# Altium footprint library pre_MICROCIRCUITRY.PcbLib: 35 footprints (part 1 of 3)
Each footprint in its own frame and in the unit in brackets; x right, y up, seen from the top. Pads: shape width x height; smd on the part's side, far side on the other; paste and mask are expansions set on the pad; w line width, h text height; cw(c..) or ccw(c..) is an arc to the next point about the centre after c.
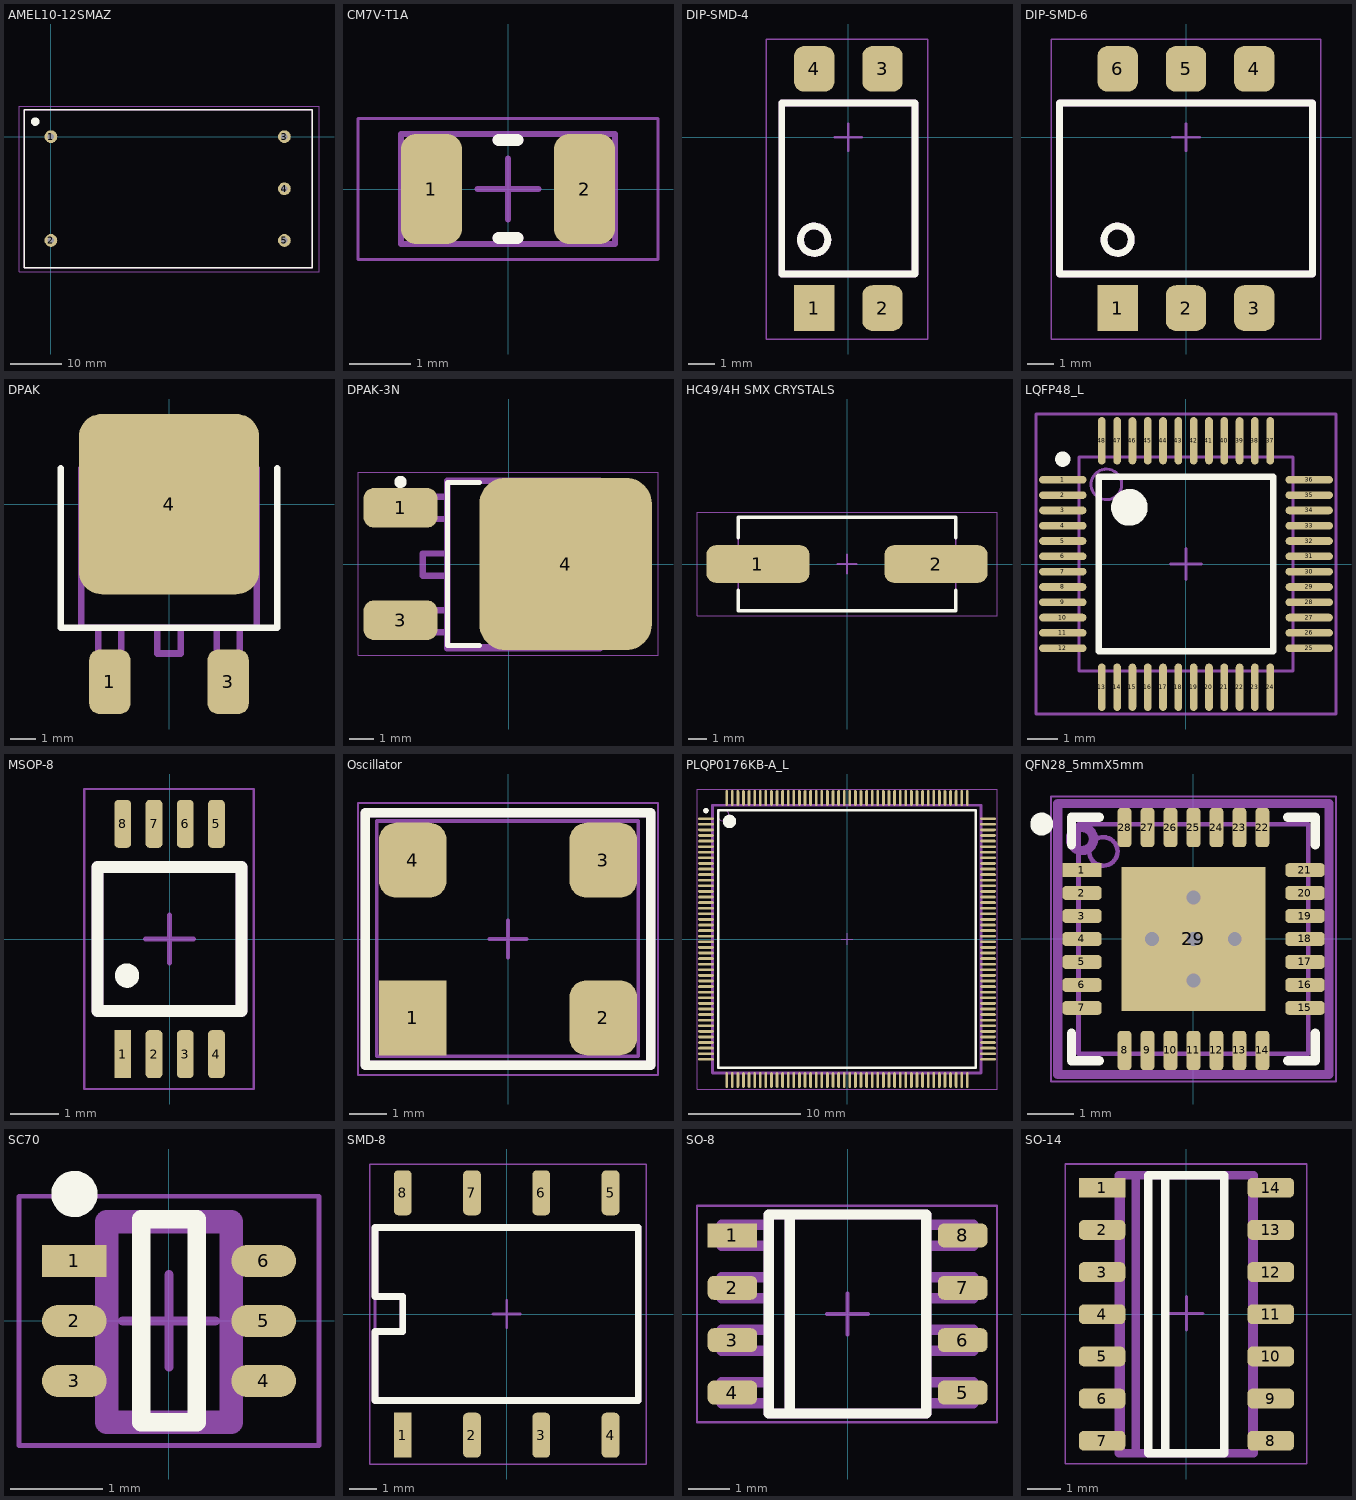
[diagram p0: the footprints below, top view; thin cyan lines are the x and y axes]

## AMEL10-12SMAZ [mm]
pads (5):
  round 2.5 hole 1.25: 1(0,0) 2(0,-20.32) 3(45.72,0) 4(45.72,-10.2) 5(45.72,-20.32)
Top Overlay:
  circle w1.254: c-3.075,2.95 r0.2
  lines w0.254: -5.25,-25.625 -5.25,5.225 51.2,5.225 51.2,-25.625 -5.25,-25.625
Top Assy:
  lines w0.254: -5.25,5.225 51.2,5.225 51.2,-25.625 ; -5.25,5.25 -5.25,-25.625 51.25,-25.625
Mechanical 13:
  lines w0.1: -5.25,5.225 51.2,5.225 51.2,-25.625 ; -5.25,5.25 -5.25,-25.625 51.25,-25.625
Mechanical 15:
  lines w0.05: -6.25,-26.5 -6.25,6 52.5,6 52.5,-26.5 -6.25,-26.5
3D body: height 25.1, standoff 0, extent -5.125,-25.5 51.075,5.1

## CM7V-T1A [mm] "Watch Crystal"
height 0.65
pads (2):
  rrect50% 1x1.8 smd: 1(-1.25,0) 2(1.25,0)
Top Overlay:
  lines w0.2: -0.15,-0.8 0.15,-0.8 ; -0.15,0.8 0.15,0.8
Top Assy:
  lines w0.2: -0.15,-0.8 0.15,-0.8 ; -0.15,0.8 0.15,0.8
Mechanical 13:
  lines w0.1: -1.75,-0.9 1.75,-0.9 1.75,0.9 -1.75,0.9 -1.75,-0.9
Mechanical 15:
  lines w0.05: -2.45,-1.15 2.45,-1.15 2.45,1.15 -2.45,1.15 -2.45,-1.15
  lines w0.1: -0.5,0 0.5,0 ; 0,-0.5 0,0.5
3D body: height 0.65, standoff 0, extent 0.9,-0.9 1.75,0.9
3D body: height 0.65, standoff 0, extent -1.75,-0.9 -0.9,0.9
3D body: height 0.65, standoff 0, extent -0.9,-0.9 0.9,0.9

## DIP-SMD-4 [mm]
height 3.8
pads (4):
  rect 1.5x1.7 smd: 1(-1.27,-6.35)
  rrect50% 1.5x1.7 smd: 2(1.27,-6.35) 3(1.27,2.54) 4(-1.27,2.54)
Top Overlay:
  circle w0.254: c-1.27,-3.81 r0.508
  lines w0.254: -2.475,-5.08 2.475,-5.08 2.475,1.27 -2.475,1.27 -2.475,-5.08
Top Assy:
  circle w0.254: c-1.27,-3.81 r0.508
  lines w0.254: -2.475,0.508 -2.475,1.27 ; -2.475,1.27 -2.475,-5.08 2.475,-5.08 2.475,1.27 -2.475,1.27
Mechanical 13:
  lines w0.1: -2.475,-5.075 2.475,-5.075 2.475,1.275 -2.475,1.275 -2.475,-5.075
Mechanical 15:
  lines w0.05: -3.05,-7.5 2.95,-7.5 2.95,3.65 -3.05,3.65 -3.05,-7.5
  lines w0.1: -0.5,0 0.5,0 ; 0,-0.5 0,0.5
3D body: height 4.7, standoff 1.3, extent -2.475,-5.075 2.475,1.3

## DIP-SMD-6 [mm]
pads (6):
  rect 1.5x1.7 smd: 1(-2.54,-6.35)
  rrect50% 1.5x1.7 smd: 2(0,-6.35) 3(2.54,-6.35) 4(2.54,2.54) 5(0,2.54) 6(-2.54,2.54)
Top Overlay:
  circle w0.254: c-2.54,-3.81 r0.508
  lines w0.254: -4.699,-5.08 4.699,-5.08 4.699,1.27 -4.699,1.27 -4.699,-1.27 -4.699,-2.54 -4.699,-5.08
Top Assy:
  circle w0.254: c-2.54,-3.81 r0.508
  lines w0.254: -4.699,-5.08 4.699,-5.08 4.699,1.27 -4.699,1.27 -4.699,0.508 -4.699,-0.762 -4.699,-1.27 -4.699,-2.54 -4.699,-5.08
Mechanical 13:
  lines w0.1: -4.699,-5.075 4.675,-5.075 4.675,1.275 -4.699,1.275 -4.699,-5.075
Mechanical 15:
  lines w0.05: -5,-7.5 5,-7.5 5,3.65 -5,3.65 -5,-7.5
  lines w0.1: -0.5,0 0.5,0 ; 0,-0.5 0,0.5
3D body: height 4.7, standoff 1.3, extent -4.7,-5.075 4.7,1.3

## DPAK [mm]
height 2.4
pads (3):
  rrect50% 1.6x2.5 smd: 1(-2.3,-6.9) 3(2.3,-6.9)
  rrect25% 7x7 smd: 4(0,0)
Top Overlay:
  lines w0.254: -4.2,1.4 -4.2,-4.8 4.2,-4.8 4.2,1.4
Top Assy:
  lines w0.254: -2.75,-4.8 -2.75,-7.6 -1.85,-7.6 -1.85,-4.8 ; -2.75,1.4 -2.75,2.7 0,2.7 2.75,2.7 2.75,1.4 ; -0.45,-4.8 -0.45,-5.8 0.45,-5.8 0.45,-4.8 ; 1.85,-4.8 1.85,-7.6 2.75,-7.6 2.75,-4.8 ; -3.4,-4.8 0,-4.8 3.4,-4.8 3.4,1.4 -3.4,1.4 -3.4,-4.8

## DPAK-3N [mm] "D-PAK, 3-Pads, Body 6,20x6,66mm (max), IPC Medium Density"
height 2.4
pads (3):
  rrect50% 3x1.6 smd: 1(-4.4,2.28) 3(-4.4,-2.28)
  rrect30% 7x7 smd: 4(2.3,0)
Top Overlay:
  circle w0.25: c-4.4,3.33 r0.125
  lines w0.2: -1.2,-3.3 -2.5,-3.3 -2.5,3.3 -1.2,3.3
Top Assy:
  lines w0.254: -2.5,-2.775 -5.3,-2.775 -5.3,-1.875 -2.5,-1.875 ; -2.5,-0.475 -3.5,-0.475 -3.5,0.425 -2.5,0.425 ; -2.5,1.825 -5.3,1.825 -5.3,2.725 -2.5,2.725 ; 3.725,-2.75 5.025,-2.75 5.025,0 5.025,2.75 3.725,2.75 ; -2.5,-3.425 3.7,-3.425 3.7,3.375 -2.5,3.375 -2.5,-0.025 -2.5,-3.425
Mechanical 13:
  lines w0.1: -2.5,-3.3 -2.5,3.3 3.7,3.3 3.7,-3.3 -2.5,-3.3
Mechanical 15:
  lines w0.05: -6.125,-3.7 -6.125,3.725 6.05,3.725 6.05,-3.7 -6.125,-3.7
  lines w0.1: -0.5,0 0.5,0 ; 0,-0.5 0,0.5
3D body: height 2.4, standoff 0, extent -2.5,-3.3 3.7,3.3

## HC49/4H SMX CRYSTALS [mm] "SMX crystals"
height 4.3
pads (2):
  rrect50% 5.5x2 smd: 1(-4.75,0) 2(4.75,0)
Top Overlay:
  lines w0.2: -5.8,-1.4 -5.8,-2.5 5.8,-2.5 5.8,-1.4 ; -5.8,1.4 -5.8,2.5 5.8,2.5 5.8,1.4
Mechanical 13:
  lines w0.1: -5.8,-2.45 -5.8,2.45 5.8,2.45 5.8,-2.45 -5.8,-2.45
Mechanical 15:
  lines w0.05: -8,-2.75 -8,2.75 8,2.75 8,-2.75 -8,-2.75
  lines w0.1: -0.5,0 0.5,0 ; 0,-0.5 0,0.5
3D body: height 4.3, standoff 0, extent -5.8,-2.45 5.8,2.45

## LQFP48_L [mm] "Thin QFP, 48-Leads, Body 7x7mm, Pitch 0.5mm, IPC High Density"
height 1.6
pads (48):
  oval 1.55x0.25 smd: 1(-4.025,2.75) 2(-4.025,2.25) 3(-4.025,1.75) 4(-4.025,1.25) 5(-4.025,0.75) 6(-4.025,0.25) 7(-4.025,-0.25) 8(-4.025,-0.75) 9(-4.025,-1.25) 10(-4.025,-1.75) 11(-4.025,-2.25) 12(-4.025,-2.75) 25(4.025,-2.75) 26(4.025,-2.25) 27(4.025,-1.75) 28(4.025,-1.25) 29(4.025,-0.75) 30(4.025,-0.25) 31(4.025,0.25) 32(4.025,0.75) 33(4.025,1.25) 34(4.025,1.75) 35(4.025,2.25) 36(4.025,2.75)
  oval 0.25x1.55 smd: 13(-2.75,-4.025) 14(-2.25,-4.025) 15(-1.75,-4.025) 16(-1.25,-4.025) 17(-0.75,-4.025) 18(-0.25,-4.025) 19(0.25,-4.025) 20(0.75,-4.025) 21(1.25,-4.025) 22(1.75,-4.025) 23(2.25,-4.025) 24(2.75,-4.025) 37(2.75,4.025) 38(2.25,4.025) 39(1.75,4.025) 40(1.25,4.025) 41(0.75,4.025) 42(0.25,4.025) 43(-0.25,4.025) 44(-0.75,4.025) 45(-1.25,4.025) 46(-1.75,4.025) 47(-2.25,4.025) 48(-2.75,4.025)
Top Overlay:
  circle w0.6: c-1.85,1.85 r0.3
  circle w0.25: c-4.025,3.425 r0.125
  lines w0.2: -2.85,-2.85 2.85,-2.85 2.85,2.85 -2.85,2.85 -2.85,-2.85
Mechanical 13:
  circle w0.1: c-2.6,2.6 r0.5
  lines w0.1: -3.5,-3.5 3.5,-3.5 3.5,3.5 -3.5,3.5 -3.5,-3.5
Mechanical 15:
  lines w0.1: -0.5,0 0.5,0 ; 0,-0.5 0,0.5 ; -4.9,-4.9 4.9,-4.9 4.9,4.9 -4.9,4.9 -4.9,-4.9
3D body: height 1.6, standoff 0, extent -3.5,-3.5 3.5,3.5

## MSOP-8 [mm]
height 1
pads (8):
  rect 0.35x1 smd: 1(-0.975,-2.4)
  rrect50% 0.35x1 smd: 2(-0.325,-2.4) 3(0.325,-2.4) 4(0.975,-2.4) 5(0.975,2.4) 6(0.325,2.4) 7(-0.325,2.4) 8(-0.975,2.4)
Top Overlay:
  circle w0.254: c-0.889,-0.762 r0.127
  lines w0.254: -1.5,-1.5 -1.5,1.5 1.5,1.5 1.5,-1.5 -1.5,-1.5
Mechanical 13:
  lines w0.1: -1.5,-1.5 1.5,-1.5 1.5,1.5 -1.5,1.5 -1.5,-1.5
Mechanical 15:
  lines w0.05: -1.775,-3.125 1.75,-3.125 1.75,3.125 -1.775,3.125 -1.775,-3.125
  lines w0.1: -0.5,0 0.5,0 ; 0,-0.5 0,0.5
  lines w0.254: -1.5,-1.5 1.5,-1.5 1.5,1.5 -1.5,1.5 -1.5,-1.5
3D body: height 1, standoff 0, extent -1.5,-1.5 1.5,1.5

## Oscillator [mm]
height 1.5
pads (4):
  rect 1.8x2 smd: 1(-2.54,-2.1)
  rrect50% 1.8x2 smd: 2(2.54,-2.1) 3(2.54,2.1) 4(-2.54,2.1)
Top Overlay:
  lines w0.254: -3.81,-3.37 -3.81,3.37 3.81,3.37 3.81,-3.37 -3.81,-3.37
Top Assy:
  lines w0.254: -3.81,-3.37 3.81,-3.37 ; -3.81,-3.302 -3.81,3.302 ; -3.81,3.37 3.81,3.37 ; 3.81,-3.302 3.81,3.302
Mechanical 13:
  lines w0.1: -3.5,-3.125 3.475,-3.125 3.475,3.15 -3.5,3.15 -3.5,-3.125
Mechanical 15:
  lines w0.05: -4,-3.625 4,-3.625 4,3.625 -4,3.625 -4,-3.625
  lines w0.1: -0.5,0 0.5,0 ; 0,-0.5 0,0.5
3D body: height 1.5, standoff 0, extent -3.5,-3.125 3.475,3.15

## PLQP0176KB-A_L [mm] "Shrink QFP, 176-Leads, Body 24x24mm, Pitch 0.5mm, IPC High Density"
height 1.7
pads (176):
  oval 1.4x0.25 smd: 1(-12.6,10.75) 2(-12.6,10.25) 3(-12.6,9.75) 4(-12.6,9.25) 5(-12.6,8.75) 6(-12.6,8.25) 7(-12.6,7.75) 8(-12.6,7.25) 9(-12.6,6.75) 10(-12.6,6.25) 11(-12.6,5.75) 12(-12.6,5.25) 13(-12.6,4.75) 14(-12.6,4.25) 15(-12.6,3.75) 16(-12.6,3.25) 17(-12.6,2.75) 18(-12.6,2.25) 19(-12.6,1.75) 20(-12.6,1.25) 21(-12.6,0.75) 22(-12.6,0.25) 23(-12.6,-0.25) 24(-12.6,-0.75) 25(-12.6,-1.25) 26(-12.6,-1.75) 27(-12.6,-2.25) 28(-12.6,-2.75) 29(-12.6,-3.25) 30(-12.6,-3.75) 31(-12.6,-4.25) 32(-12.6,-4.75) 33(-12.6,-5.25) 34(-12.6,-5.75) 35(-12.6,-6.25) 36(-12.6,-6.75) 37(-12.6,-7.25) 38(-12.6,-7.75) 39(-12.6,-8.25) 40(-12.6,-8.75) 41(-12.6,-9.25) 42(-12.6,-9.75) 43(-12.6,-10.25) 44(-12.6,-10.75) 89(12.6,-10.75) 90(12.6,-10.25) 91(12.6,-9.75) 92(12.6,-9.25) 93(12.6,-8.75) 94(12.6,-8.25) 95(12.6,-7.75) 96(12.6,-7.25) 97(12.6,-6.75) 98(12.6,-6.25) 99(12.6,-5.75) 100(12.6,-5.25) 101(12.6,-4.75) 102(12.6,-4.25) 103(12.6,-3.75) 104(12.6,-3.25) 105(12.6,-2.75) 106(12.6,-2.25) 107(12.6,-1.75) 108(12.6,-1.25) 109(12.6,-0.75) 110(12.6,-0.25) 111(12.6,0.25) 112(12.6,0.75) 113(12.6,1.25) 114(12.6,1.75) 115(12.6,2.25) 116(12.6,2.75) 117(12.6,3.25) 118(12.6,3.75) 119(12.6,4.25) 120(12.6,4.75) 121(12.6,5.25) 122(12.6,5.75) 123(12.6,6.25) 124(12.6,6.75) 125(12.6,7.25) 126(12.6,7.75) 127(12.6,8.25) 128(12.6,8.75) 129(12.6,9.25) 130(12.6,9.75) 131(12.6,10.25) 132(12.6,10.75)
  oval 0.25x1.4 smd: 45(-10.75,-12.6) 46(-10.25,-12.6) 47(-9.75,-12.6) 48(-9.25,-12.6) 49(-8.75,-12.6) 50(-8.25,-12.6) 51(-7.75,-12.6) 52(-7.25,-12.6) 53(-6.75,-12.6) 54(-6.25,-12.6) 55(-5.75,-12.6) 56(-5.25,-12.6) 57(-4.75,-12.6) 58(-4.25,-12.6) 59(-3.75,-12.6) 60(-3.25,-12.6) 61(-2.75,-12.6) 62(-2.25,-12.6) 63(-1.75,-12.6) 64(-1.25,-12.6) 65(-0.75,-12.6) 66(-0.25,-12.6) 67(0.25,-12.6) 68(0.75,-12.6) 69(1.25,-12.6) 70(1.75,-12.6) 71(2.25,-12.6) 72(2.75,-12.6) 73(3.25,-12.6) 74(3.75,-12.6) 75(4.25,-12.6) 76(4.75,-12.6) 77(5.25,-12.6) 78(5.75,-12.6) 79(6.25,-12.6) 80(6.75,-12.6) 81(7.25,-12.6) 82(7.75,-12.6) 83(8.25,-12.6) 84(8.75,-12.6) 85(9.25,-12.6) 86(9.75,-12.6) 87(10.25,-12.6) 88(10.75,-12.6) 133(10.75,12.6) 134(10.25,12.6) 135(9.75,12.6) 136(9.25,12.6) 137(8.75,12.6) 138(8.25,12.6) 139(7.75,12.6) 140(7.25,12.6) 141(6.75,12.6) 142(6.25,12.6) 143(5.75,12.6) 144(5.25,12.6) 145(4.75,12.6) 146(4.25,12.6) 147(3.75,12.6) 148(3.25,12.6) 149(2.75,12.6) 150(2.25,12.6) 151(1.75,12.6) 152(1.25,12.6) 153(0.75,12.6) 154(0.25,12.6) 155(-0.25,12.6) 156(-0.75,12.6) 157(-1.25,12.6) 158(-1.75,12.6) 159(-2.25,12.6) 160(-2.75,12.6) 161(-3.25,12.6) 162(-3.75,12.6) 163(-4.25,12.6) 164(-4.75,12.6) 165(-5.25,12.6) 166(-5.75,12.6) 167(-6.25,12.6) 168(-6.75,12.6) 169(-7.25,12.6) 170(-7.75,12.6) 171(-8.25,12.6) 172(-8.75,12.6) 173(-9.25,12.6) 174(-9.75,12.6) 175(-10.25,12.6) 176(-10.75,12.6)
Top Overlay:
  circle w0.25: c-12.6,11.475 r0.125
  circle w0.6: c-10.5,10.5 r0.3
  lines w0.2: -11.5,-11.5 -11.5,11.5 11.5,11.5 11.5,-11.5 -11.5,-11.5
Mechanical 13:
  circle w0.1: c-11.05,11.05 r0.5
  lines w0.1: -12,-12 -12,12 12,12 12,-12 -12,-12
Mechanical 15:
  lines w0.1: -0.5,0 0.5,0 ; 0,-0.5 0,0.5 ; -13.4,-13.4 -13.4,13.4 13.4,13.4 13.4,-13.4 -13.4,-13.4
  lines w0.254: -12.025,-11.975 11.975,-11.975 11.975,11.95 -12.025,11.95 -12.025,-11.975
3D body: height 1.7, standoff 0.05, extent -12,-12 12,12

## QFN28_5mmX5mm [mm] "QFN, 28-Leads, Body 5,00x5,00mm, Pitch 0,50mm, Thermal Pad 3,13x3,13mm, IPC Medium Density"
height 1
pads (29):
  rect 0.85x0.3 smd: 1(-2.425,1.5)
  rrect50% 0.85x0.3 smd: 2(-2.425,1) 3(-2.425,0.5) 4(-2.425,0) 5(-2.425,-0.5) 6(-2.425,-1) 7(-2.425,-1.5) 15(2.425,-1.5) 16(2.425,-1) 17(2.425,-0.5) 18(2.425,0) 19(2.425,0.5) 20(2.425,1) 21(2.425,1.5)
  rrect50% 0.3x0.85 smd: 8(-1.5,-2.425) 9(-1,-2.425) 10(-0.5,-2.425) 11(0,-2.425) 12(0.5,-2.425) 13(1,-2.425) 14(1.5,-2.425) 22(1.5,2.425) 23(1,2.425) 24(0.5,2.425) 25(0,2.425) 26(-0.5,2.425) 27(-1,2.425) 28(-1.5,2.425)
  rect 3.13x3.13 smd: 29(0,0)
via 0,0 diameter 0.6 hole 0.3
via -0.9,0 diameter 0.6 hole 0.3
via 0.9,0 diameter 0.6 hole 0.3
via 0,0.9 diameter 0.6 hole 0.3
via 0,-0.9 diameter 0.6 hole 0.3
Top Overlay:
  circle w0.25: c-3.3,2.5 r0.125
  lines w0.2: -2.65,-2.05 -2.65,-2.65 -2.05,-2.65 ; -2.65,2.05 -2.65,2.65 -2.05,2.65 ; 2.05,-2.65 2.65,-2.65 2.65,-2.05 ; 2.05,2.65 2.65,2.65 2.65,2.05
Top Assy:
  circle w0.2: c-2.426,2.175 r0.251
Mechanical 13:
  circle w0.1: c-1.96,1.905 r0.309
  lines w0.1: -2.5,-2.5 2.5,-2.5 2.5,2.5 -2.5,2.5 -2.5,-2.5
Mechanical 15:
  lines w0.05: -3.1,-3.1 3.1,-3.1 3.1,3.1 -3.1,3.1 -3.1,-3.1
  lines w0.1: -0.5,0 0.5,0 ; 0,-0.5 0,0.5
  lines w0.2: -2.95,-2.95 2.95,-2.95 2.95,2.95 -2.95,2.95 -2.95,-2.95
3D body: height 1, standoff 0.05, extent -2.5,-2.5 2.5,2.5
3D body: height 1, standoff 0.1, extent -2.275,1.59 -1.645,2.22

## SC70 [mm] "SC70, 6-Leads, Body 2,00x2,10mm, Pitch 0,65mm, IPC Medium Density"
height 1
pads (6):
  rect 0.7x0.35 smd: 1(-1.025,0.65)
  oval 0.7x0.35 smd: 2(-1.025,0) 3(-1.025,-0.65) 4(1.025,-0.65) 5(1.025,0) 6(1.025,0.65)
Top Overlay:
  circle w0.25: c-1.025,1.375 r0.125
  lines w0.2: -0.3,-1.1 -0.3,1.1 0.3,1.1 0.3,-1.1 -0.3,-1.1
Mechanical 13:
  lines w0.1: -0.675,-1.1 0.675,-1.1 0.675,1.1 -0.675,1.1 -0.675,-1.1
Mechanical 15:
  lines w0.05: -1.625,-1.35 1.625,-1.35 1.625,1.35 -1.625,1.35 -1.625,-1.35
  lines w0.1: -0.5,0 0.5,0 ; 0,-0.5 0,0.5
  lines w0.254: -0.675,-1.1 -0.675,1.075 0.675,1.075 0.675,-1.1 -0.675,-1.1
3D body: height 1, standoff 0.1, extent -0.675,-1.1 0.675,1.1

## SMD-8 [mm]
height 6.25
pads (8):
  rect 0.65x1.65 smd: 1(-3.81,-4.445)
  rrect50% 0.65x1.65 smd: 2(-1.27,-4.445) 3(1.27,-4.445) 4(3.81,-4.445) 5(3.81,4.445) 6(1.27,4.445) 7(-1.27,4.445) 8(-3.81,4.445)
Top Overlay:
  lines w0.254: -4.826,-3.175 -4.826,-0.635 -3.81,-0.635 -3.81,0.635 -4.826,0.635 -4.826,3.175 4.826,3.175 4.826,-3.175 -4.826,-3.175
Top Assy:
  lines w0.254: -4.826,-3.175 -4.826,-0.635 -3.81,-0.635 -3.81,0.635 -4.826,0.635 -4.826,3.175 4.826,3.175 4.826,-3.175 -4.826,-3.175
Mechanical 13:
  lines w0.1: -4.826,-3.175 -4.826,3.175 4.826,3.175 4.826,-3.175 -4.826,-3.175
Mechanical 15:
  lines w0.05: -5.025,-5.5 -5.025,5.5 5.125,5.5 5.125,-5.5 -5.025,-5.5
  lines w0.1: -0.5,0 0.5,0 ; 0,-0.5 0,0.5
3D body: height 6.25, standoff 0.1, extent -4.826,-3.2 4.825,3.175

## SO-8 [mm]
height 1.75
pads (8):
  rect 1.2x0.58 smd: 1(-2.794,1.905)
  rrect50% 1.2x0.58 smd: 2(-2.794,0.635) 3(-2.794,-0.635) 4(-2.794,-1.905) 5(2.794,-1.905) 6(2.794,-0.635) 7(2.794,0.635) 8(2.794,1.905)
Top Overlay:
  lines w0.254: -1.397,-2.413 -1.397,2.413 ; -1.905,-2.413 -1.905,2.413 1.905,2.413 1.905,-2.413 -1.905,-2.413
Top Assy:
  lines w0.254: -1.905,-2.159 -3.048,-2.159 -3.048,-1.651 -1.905,-1.651 ; -1.905,-0.889 -3.048,-0.889 -3.048,-0.381 -1.905,-0.381 ; -1.905,0.381 -3.048,0.381 -3.048,0.889 -1.905,0.889 ; -1.905,1.651 -3.048,1.651 -3.048,2.159 -1.905,2.159 ; -1.397,-2.413 -1.397,2.413 ; 1.905,-2.159 3.048,-2.159 3.048,-1.651 1.905,-1.651 ; 1.905,-0.889 3.048,-0.889 3.048,-0.381 1.905,-0.381 ; 1.905,0.381 3.048,0.381 3.048,0.889 1.905,0.889 ; 1.905,1.651 3.048,1.651 3.048,2.159 1.905,2.159 ; -1.905,-2.413 1.905,-2.413 1.905,2.413 -1.905,2.413 -1.905,-2.413
Mechanical 13:
  lines w0.1: -1.905,-2.413 -1.905,2.413 1.905,2.413 1.905,-2.413 -1.905,-2.413
Mechanical 15:
  lines w0.05: -3.65,-2.625 3.625,-2.625 3.625,2.625 -3.65,2.625 -3.65,-2.625
  lines w0.1: -0.5,0 0.5,0 ; 0,-0.5 0,0.5
3D body: height 1.75, standoff 0, extent -1.875,-2.425 1.9,2.425

## SO-14 [mm]
height 1.75
pads (14):
  rect 1.4x0.6 smd: 1(-2.54,3.81)
  rrect50% 1.4x0.6 smd: 2(-2.54,2.54) 3(-2.54,1.27) 4(-2.54,0) 5(-2.54,-1.27) 6(-2.54,-2.54) 7(-2.54,-3.81) 8(2.54,-3.81) 9(2.54,-2.54) 10(2.54,-1.27) 11(2.54,0) 12(2.54,1.27) 13(2.54,2.54) 14(2.54,3.81)
Top Overlay:
  lines w0.254: -0.635,-4.191 -0.635,4.191 ; -1.143,-4.191 -1.143,4.191 0.381,4.191 1.143,4.191 1.143,-4.191 -1.143,-4.191
Top Assy:
  lines w0.254: -2.032,-3.937 -2.921,-3.937 -2.921,-3.683 -2.032,-3.683 ; -2.032,-2.667 -2.921,-2.667 -2.921,-2.413 -2.032,-2.413 ; -2.032,-1.397 -2.921,-1.397 -2.921,-1.143 -2.032,-1.143 ; -2.032,-0.127 -2.921,-0.127 -2.921,0.127 -2.032,0.127 ; -2.032,1.143 -2.921,1.143 -2.921,1.397 -2.032,1.397 ; -2.032,2.413 -2.921,2.413 -2.921,2.667 -2.032,2.667 ; -2.032,3.683 -2.921,3.683 -2.921,3.937 -2.032,3.937 ; -1.524,-4.064 -1.524,4.191 ; 2.032,-3.937 2.921,-3.937 2.921,-3.683 2.032,-3.683 ; 2.032,-2.667 2.921,-2.667 2.921,-2.413 2.032,-2.413 ; 2.032,-1.397 2.921,-1.397 2.921,-1.143 2.032,-1.143 ; 2.032,-0.127 2.921,-0.127 2.921,0.127 2.032,0.127 ; 2.032,1.143 2.921,1.143 2.921,1.397 2.032,1.397 ; 2.032,2.413 2.921,2.413 2.921,2.667 2.032,2.667 ; 2.032,3.683 2.921,3.683 2.921,3.937 2.032,3.937 ; -2.032,-4.191 -2.032,4.191 2.032,4.191 2.032,-4.191 -2.032,-4.191
Mechanical 13:
  lines w0.1: -1.905,-4.2 -1.905,4.225 1.905,4.225 1.905,-4.2 -1.905,-4.2
Mechanical 15:
  lines w0.05: -3.65,-4.5 3.625,-4.5 3.625,4.525 -3.65,4.525 -3.65,-4.5
  lines w0.1: -0.5,0.025 0.5,0.025 ; 0,-0.475 0,0.525
3D body: height 1.75, standoff 0, extent -1.875,-4.175 1.9,4.191